# Altium schematic symbol library V2S.SCHLIB: 41 symbols
Pins are listed as number, name and electrical type; pins without a type are passive.

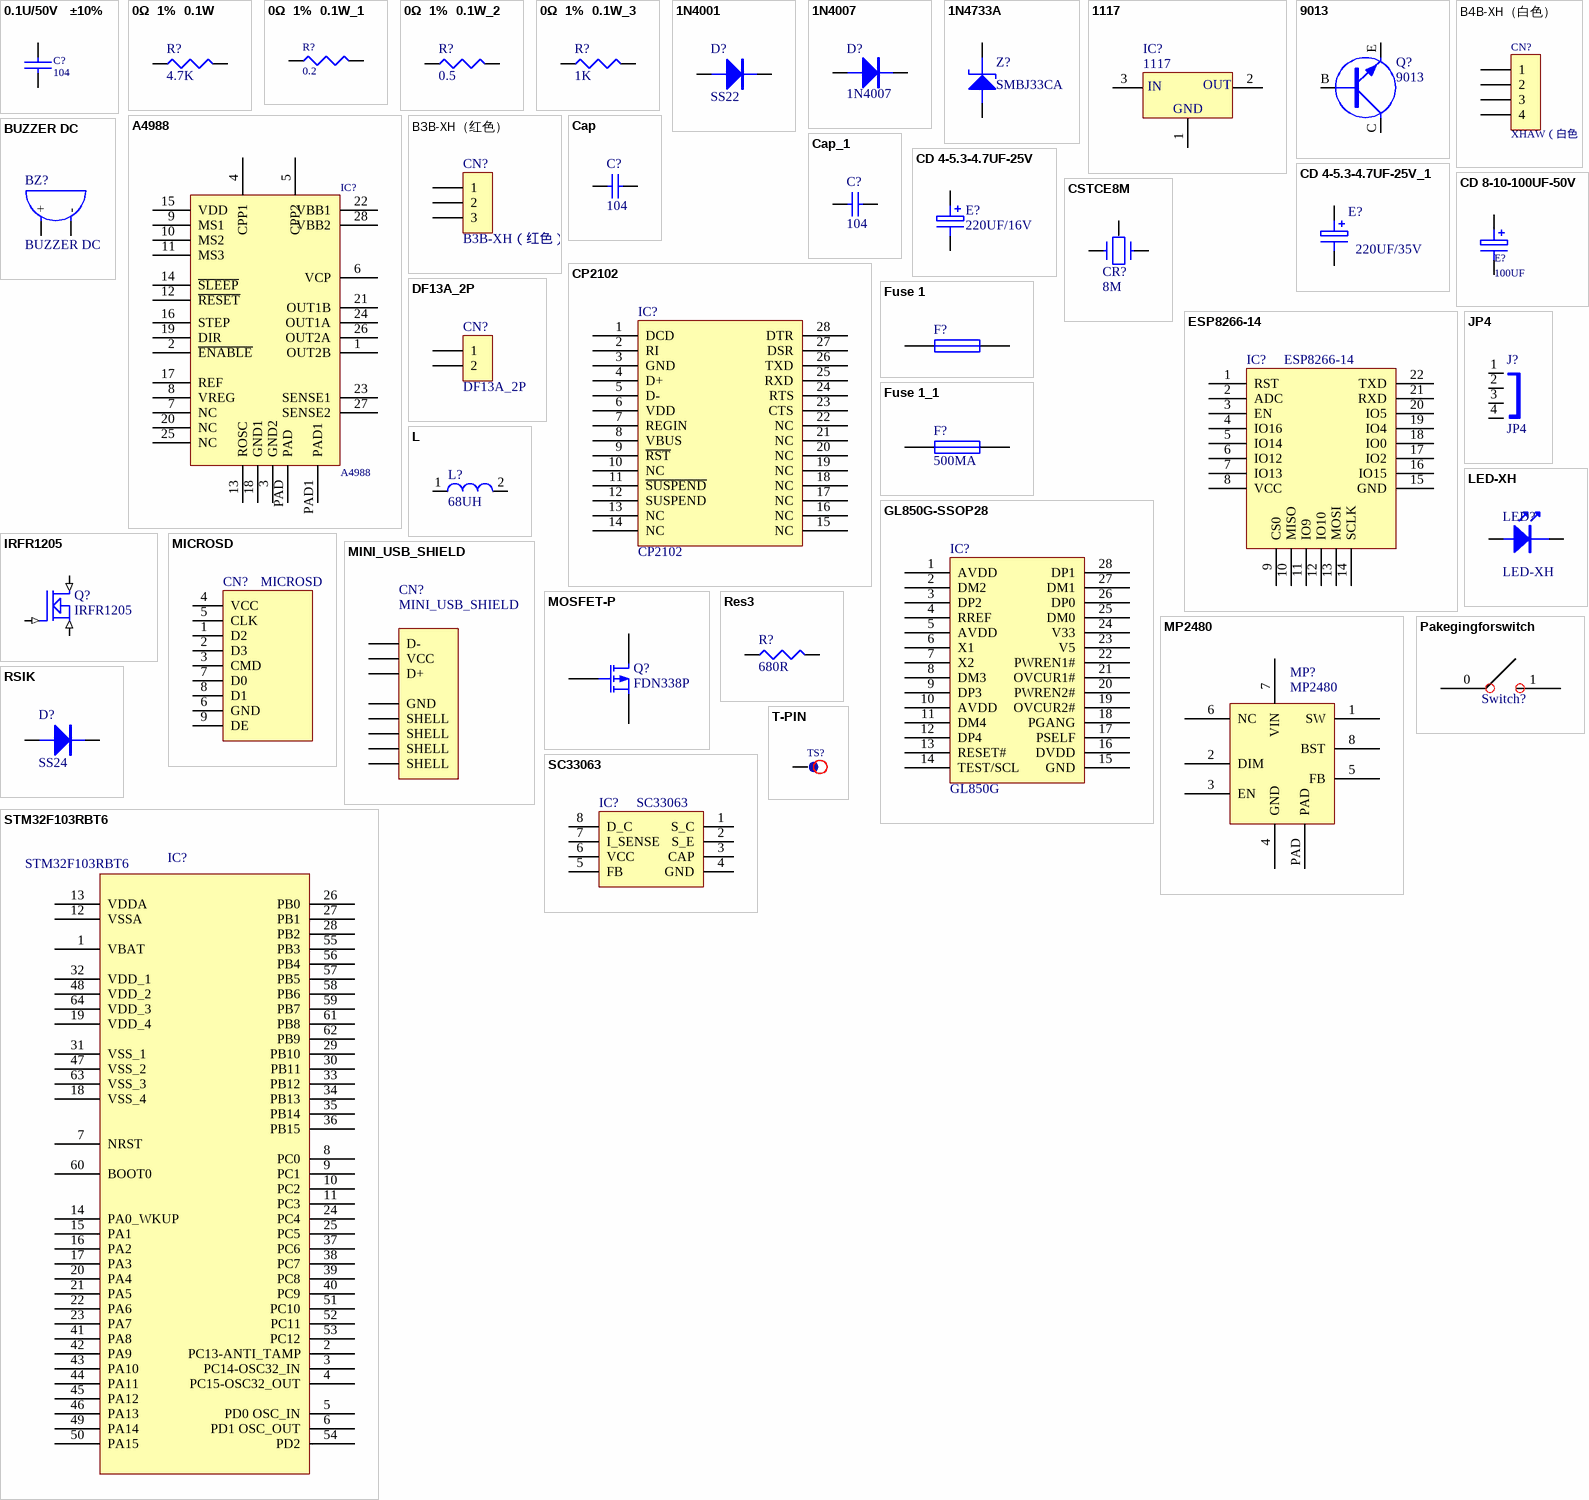
[diagram p0: symbols 0.1U/50V   ±10% to T-PIN]

## 0.1U/50V   ±10%
designator C?, comment 104
贴片电容; Text Field1: C1608X7R1H103K; Text Field2: 0.1U/50V   ±10%; Text Field3: 0603; Text Field4: TDK; Text Field5: 1; Text Field8: 常规件
footprint 0603
footprint C0603
pins: 1, 2

## 0Ω  1%  0.1W
designator R?, comment 4.7K
贴片电阻; Text Field1: RC0805F R-07 0Ω; Text Field2: 0Ω   1%; Text Field3: 0805; Text Field5: 1; Text Field8: 常规
footprint R0805
footprint R0603
pins: 1, 2

## 0Ω  1%  0.1W_1
designator R?, comment 0.2
贴片电阻; Text Field1: RC0805F R-07 0Ω; Text Field2: 0Ω   1%; Text Field3: 0805; Text Field5: 1; Text Field8: 常规
footprint R0805
pins: 1, 2

## 0Ω  1%  0.1W_2
designator R?, comment 0.5
贴片电阻; Text Field1: RC0805F R-07 0Ω; Text Field2: 0Ω   1%; Text Field3: 0805; Text Field5: 1; Text Field8: 常规
footprint R0805
footprint R1206
pins: 1, 2

## 0Ω  1%  0.1W_3
designator R?, comment 1K
贴片电阻; Text Field1: RC0805F R-07 0Ω; Text Field2: 0Ω   1%; Text Field3: 0805; Text Field5: 1; Text Field8: 常规
footprint R0805
footprint R1206
footprint R0603
pins: 1, 2

## 1N4001
designator D?, comment SS22
二极管; Text Field1: IN4001; Text Field2: 1A/50V; Text Field3: DO-41; Text Field4: HY/HB; Text Field5: 1; Text Field8: 常规; IN4001: *; 1A/50V: *; DO-41: *; HY/HB: *; 1: *; CG: *
footprint 4007
footprint DIOD2
footprint SOD-6
pins: A, K

## 1N4007
designator D?
二极管; Text Field2: 1A/1000V; Text Field3: DO-41; Text Field4: HY/HB; Text Field5: 1; Text Field8: 常规; Text Field1: 1N4007; IN4007: *; 1A/1000V: *; DO-41: *; HY/HB: *; 1: *; CG: *
footprint D4007
footprint SOD-123FL
pins: A, K

## 1N4733A
designator Z?, comment SMBJ33CA
稳压管; Text Field1: IN4733; Text Field2: 5V/1W; Text Field3: DO-41G; Text Field4: HY/HB; Text Field5: 1; Text Field8: CG; IN4733: *; 5V/1W: *; DO-41G: *; HY/HB: *; 1: *; CG: *
footprint 4007
footprint DO-214AC
footprint D1210
pins: A, K

## 1117
designator IC?
三端稳压器; Text Field1: LM7805CT; Text Field2: 5V; Text Field3: TO-220AB; Text Field4: NS/ON/ST; Text Field5: 1; Text Field8: 通用
footprint 7805
footprint 7805K
footprint 7805S
footprint 7805T
footprint SOT-223
pins: 1 GND, 2 VOUT, 3 VIN
text: IN; OUT

## 9013
designator Q?
三极管; Text Field2: A级; Text Field3: SOT23; Text Field5: 1; Text Field8: 常规; Text Field1: 9013; KTC9013: *; A级: *; TO-92A: *; KEC: *; 1: *; CG: *
footprint SOT23
pins: B, C, E

## A4988
designator IC?
步进电机驱动器; Text Field3: QFN-28; Text Field5: 1; Text Field8: 通用; Text Field1: A4988
footprint QFN-28
footprint QFN-28-VIA
pins: 1 OUT2B, 2 ~{ENABLE}, 3 GND2, 4 CPP1, 5 CPP2, 6 VCP, 7 NC, 8 VREG, 9 MS1, 10 MS2, 11 MS3, 12 ~{RESET}, 13 ROSC, 14 ~{SLEEP}, 15 VDD, 16 STEP, 17 REF, 18 GND1, 19 DIR, 20 NC, 21 OUT1B, 22 VBB1, 23 SENSE1, 24 OUT1A, 25 NC, 26 OUT2A, 27 SENSE2, 28 VBB2, PAD, PAD1

## B3B-XH（红色）
designator CN?
连接插座; Text Field1: B3B-XH; Text Field2: 红色; Text Field3: XH-3; Text Field4: 星野/天星; Text Field5: 1; Text Field8: 常规件
footprint XH-3
footprint XH-3K
footprint XH-3S
footprint XH-3SK
footprint DC-005
pins: 1, 2, 3

## B4B-XH（白色）
designator CN?, comment XHAW（白色）
连接插座; Text Field1: B4B-XH; Text Field2: 白色; Text Field3: XH-4; Text Field4: 星野/天星; Text Field5: 1; Text Field8: 常规件
footprint XH-4
footprint XH-4K
footprint XH-4SK
footprint XH-4S
pins: 1, 2, 3, 4

## BUZZER DC
designator BZ?
蜂鸣器; Text Field1: FTQ14TA4001A; Text Field2: 12V; Text Field4: 创元; Text Field5: 1; Text Field8: 通用
footprint BUZZ DC
footprint BUZZ 9
pins: 1 +, 2 -

## Cap
designator C?, comment 104
Capacitor; Value: 100pF; Published: 8-Jun-2000; LatestRevisionDate: 17-Jul-2002; LatestRevisionNote: Re-released for DXP Platform.; PackageReference: RAD-0.3; Publisher: Altium Limited; PackageDescription: Radial Cap, Thru-Hole; 2 Leads; 0.3 in Pin Spacing
footprint RAD-0.3 (Radial Cap, Thru-Hole; 2 Leads; 0.3 in Pin Spacing)
simulation model CAP (Capacitor)
signal-integrity model Cap
footprint C0603
pins: 1, 2

## Cap_1
designator C?, comment 104
Capacitor; Value: 100pF; Published: 8-Jun-2000; LatestRevisionDate: 17-Jul-2002; LatestRevisionNote: Re-released for DXP Platform.; PackageReference: RAD-0.3; Publisher: Altium Limited; PackageDescription: Radial Cap, Thru-Hole; 2 Leads; 0.3 in Pin Spacing
footprint RAD-0.3 (Radial Cap, Thru-Hole; 2 Leads; 0.3 in Pin Spacing)
simulation model CAP (Capacitor)
signal-integrity model Cap
footprint C0603
footprint C0805 (Chip Capacitor; Body 2.0 x 1.2 mm (LxW typ))
pins: 1, 2

## CD 4-5.3-4.7UF-25V
designator E?, comment 220UF/16V
电解电容; Text Field1: CD 4-5.3-4.7UF-25V; Text Field3: φ4*5.3; Text Field4: 江海/和利/华威; Text Field5: 1; Text Field8: 常规件; Text Field2: CD 4-5.3-4.7UF-25V
footprint E4-5.3
footprint PANASONIC_D
pins: 1, 2

## CD 4-5.3-4.7UF-25V_1
designator E?, comment 220UF/35V
电解电容; Text Field1: CD 4-5.3-4.7UF-25V; Text Field3: φ4*5.3; Text Field4: 江海/和利/华威; Text Field5: 1; Text Field8: 常规件; Text Field2: CD 4-5.3-4.7UF-25V
footprint E4-5.3
footprint E6.3*7.7
pins: 1, 2

## CD 8-10-100UF-50V
designator E?, comment 100UF
电解电容; Text Field1: CD 8-10-100UF-50V; Text Field3: φ8*10; Text Field4: 江海/和利/华威; Text Field5: 1; Text Field8: 常规件; Text Field2: CD 8-10-100UF-50V
footprint E8-10
footprint PANASONIC_D
pins: 1, 2

## CP2102
designator IC?
CP2102-QFN28
footprint QFN-28
footprint QFN-28-VIA
pins: 1 DCD, 2 RI, 3 GND, 4 D+, 5 D-, 6 VDD, 7 REGIN, 8 VBUS, 9 ~{RST}, 10 NC, 11 ~{SUSPEND}, 12 SUSPEND, 13 NC, 14 NC, 15 NC, 16 NC, 17 NC, 18 NC, 19 NC, 20 NC, 21 NC, 22 NC, 23 CTS, 24 RTS, 25 RXD, 26 TXD, 27 DSR, 28 DTR

## CSTCE8M
designator CR?, comment 8M
陶振; Text Field1: CSTCE8M; Text Field2: 8MHz; Text Field4: muRata; Text Field5: 1; Text Field8: 常规
footprint CSTCE8M
pins: 1, 2, 3

## DF13A_2P
designator CN?
连接插座; Text Field5: 1; Text Field8: 常规件
footprint DF13A-2P-1.25H
footprint PH-2HS
pins: 1, 2

## ESP8266-14
designator IC?
WIFI; Text Field1: SN74LVC541A; Text Field3: SOP20; Text Field4: TI; Text Field5: 1; Text Field8: 通用
footprint ESP8266-14
pins: 1 RST, 2 ADC, 3 EN, 4 IO16, 5 IO14, 6 IO12, 7 IO13, 8 VCC, 9 CS0, 10 MISO, 11 IO9, 12 IO10, 13 MOSI, 14 SCLK, 15 GND, 16 IO15, 17 IO2, 18 IO0, 19 IO4, 20 IO5, 21 RXD, 22 TXD

## Fuse 1
designator F?, comment 100MA  (value not drawn)
Fuse; Published: 8-Jun-2000; LatestRevisionDate: 17-Jul-2002; LatestRevisionNote: Re-released for DXP Platform.; PackageReference: PIN-W2/E2.8; Publisher: Altium Limited; PackageDescription: Thru-Hole; 2 Leads; VALUE: 100MA
footprint PIN-W2/E2.8 (Thru-Hole; 2 Leads)
simulation model FUSE (Spice Subcircuit)
footprint 6-0805_M (Chip Resistor, Body 2.0x1.2mm, IPC Low Density)
pins: 1, 2

## Fuse 1_1
designator F?, comment 500MA
Fuse; Published: 8-Jun-2000; LatestRevisionDate: 17-Jul-2002; LatestRevisionNote: Re-released for DXP Platform.; PackageReference: PIN-W2/E2.8; Publisher: Altium Limited; PackageDescription: Thru-Hole; 2 Leads; VALUE: 500MA
footprint PIN-W2/E2.8 (Thru-Hole; 2 Leads)
simulation model FUSE (Spice Subcircuit)
footprint 1812 (Chip Capacitor, Body 4.5x3.2mm, IPC High Density)
pins: 1, 2

## GL850G-SSOP28
designator IC?, comment GL850G
footprint GL850G
footprint QFN-28-VIA
pins: 1 AVDD, 2 DM2, 3 DP2, 4 RREF, 5 AVDD, 6 X1, 7 X2, 8 DM3, 9 DP3, 10 AVDD, 11 DM4, 12 DP4, 13 RESET#, 14 TEST/SCL, 15 GND, 16 DVDD, 17 PSELF, 18 PGANG, 19 OVCUR2#, 20 PWREN2#, 21 OVCUR1#, 22 PWREN1#, 23 V5, 24 V33, 25 DM0, 26 DP0, 27 DM1, 28 DP1

## IRFR1205
designator Q?
IGBT; Text Field1: IRGP50B60PD1; Text Field3: TO-247AC; Text Field4: IR; Text Field5: 1; Text Field8: 通用
footprint TO247
footprint SOT252
footprint TO252
pins: 1 GATE (in), 2 DRAIN (in), 3 SOURCE (in)

## JP4
designator J?
footprint J4
pins: 1, 2, 3, 4

## L
designator L?, comment 68UH
电流互感器; Text Field1: 0057W; Text Field2: 25A; Text Field4: 上虞电子; Text Field5: 1; Text Field8: 定制
footprint L5
footprint L1212
footprint L8040
footprint L74
pins: 1, 2

## LED-XH
designator LED?
发光二极管; Text Field1: TL-25035T; Text Field2: 高黄; Text Field3: 2*5; Text Field4: 天星; Text Field5: 1; Text Field8: 通用
footprint LED3
footprint LED3K
footprint LED-0603
pins: A 1, K 2

## MICROSD
designator CN?
连接插座; Text Field5: 1; Text Field8: 常规件
footprint MICROSD
footprint MICROSD-OUT
pins: 1 D2, 2 D3, 3 CMD, 4 VCC, 5 CLK, 6 GND, 7 D0, 8 D1, 9 DE

## MINI_USB_SHIELD
designator CN?
MINI USB; Text Field1: MOLEX-47346-0001; Text Field5: 1; Text Field8: 常规件
footprint UX60-MB-5ST
footprint MICRO_USB
pins: 1 VCC, 2 D-, 3 D+, 5 GND, 6 SHELL, 6 SHELL, 6 SHELL, 6 SHELL

## MOSFET-P
designator Q?, comment FDN338P
P-Channel MOSFET; Published: 8-Jun-2000; LatestRevisionDate: 17-Jul-2002; LatestRevisionNote: Re-released for DXP Platform.; PackageVersion: 1995/1996; PackageReference: E3; Publisher: Altium Limited; PackageDescription: TO, Flat Index; 3 In-Line, Axial Leads; Body Dia. 4.6mm; Lead Dia. 0.5 mm (max)
footprint E3 (TO, Flat Index; 3 In-Line, Axial Leads; Body Dia. 4.6mm; Lead Dia. 0.5 mm (max))
simulation model PMOS (MOSFET-P)
footprint SOT23-P
pins: 1 D, 2 G, 3 S

## MP2480
designator MP?
footprint XL3001
pins: 1 SW, 2 DIM, 3 EN, 4 GND, 5 FB, 6 NC, 7 VIN, 8 BST, PAD

## Pakegingforswitch
designator Switch?  (value not drawn)
footprint Pakegingforswitch
pins: 0, 1

## Res3
designator R?, comment 680R
Resistor; Published: 8-Jun-2000; LatestRevisionDate: 29-May-2009; LatestRevisionNote: IPC-7351 Footprint Added.; PackageReference: J1-0603; Publisher: Altium Limited; PackageDescription: Chip Resistor; Value: 680R
footprint J1-0603 (Chip Resistor, Body 1.6x0.8mm, IPC High Density)
footprint 14-1210 (Chip Resistor, Body 3.2x2.5mm, IPC High Density)
footprint 12Z-2010 (Chip Resistor, Body 5.0x2.5mm, IPC High Density)
footprint RESC6332 (Chip Resistor, Body 6.3x3.2mm, IPC High Density)
simulation model RESISTOR (Resistor)
signal-integrity model Res
footprint R0603
pins: 1, 2

## RSIK
designator D?, comment SS24
贴片快恢复二极管; Text Field1: RS1K
footprint 4007
footprint DO-214AC
footprint SMA
pins: A, K

## SC33063
designator IC?
开关电源芯片; Text Field1: BR24C04A; Text Field3: DIP8; Text Field4: 罗姆; Text Field5: 1; Text Field8: 特殊
footprint SOIC8
footprint SOIC8
footprint SOIC8
footprint SO08
pins: 1 S_C, 2 S_E, 3 CAP, 4 GND, 5 FB, 6 VCC, 7 I_SENSE, 8 D_C

## STM32F103RBT6
designator IC?
CPU; Text Field4: ST; Text Field5: 1; Text Field8: 特殊; Text Field1: CPU
footprint LQFP48
footprint LQFP64
pins: 1 VBAT, 2 PC13-ANTI_TAMP, 3 PC14-OSC32_IN, 4 PC15-OSC32_OUT, 5 PD0 OSC_IN, 6 PD1 OSC_OUT, 7 NRST, 8 PC0, 9 PC1, 10 PC2, 11 PC3, 12 VSSA, 13 VDDA, 14 PA0_WKUP, 15 PA1, 16 PA2, 17 PA3, 18 VSS_4, 19 VDD_4, 20 PA4, 21 PA5, 22 PA6, 23 PA7, 24 PC4, 25 PC5, 26 PB0, 27 PB1, 28 PB2, 29 PB10, 30 PB11, 31 VSS_1, 32 VDD_1, 33 PB12, 34 PB13, 35 PB14, 36 PB15, 37 PC6, 38 PC7, 39 PC8, 40 PC9, 41 PA8, 42 PA9, 43 PA10, 44 PA11, 45 PA12, 46 PA13, 47 VSS_2, 48 VDD_2, 49 PA14, 50 PA15, 51 PC10, 52 PC11, 53 PC12, 54 PD2, 55 PB3, 56 PB4, 57 PB5, 58 PB6, 59 PB7, 60 BOOT0, 61 PB8, 62 PB9, 63 VSS_3, 64 VDD_3

## T-PIN
designator TS?
footprint T-PIN
pins: 1

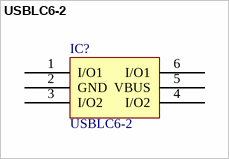
[diagram p1: symbol USBLC6-2]

## USBLC6-2
designator IC?
ESD PROTECTION; Text Field3: SOT23-6; Text Field5: 1; Text Field8: 特殊; Text Field1: USBLC6-2
footprint SOT-23-6
footprint SOT-23-6
footprint SOT-23-6
pins: 1 I/O1, 2 GND, 3 I/O2, 4 I/O2, 5 VBUS, 6 I/O1